# Altium schematic symbol library W25Q256JVEIQ.SchLib: 1 symbol
Pins are listed as number, name and electrical type; pins without a type are passive.

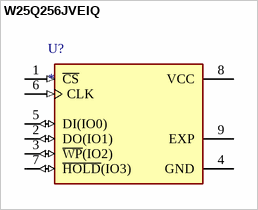
[diagram p0: symbol W25Q256JVEIQ]

## W25Q256JVEIQ
designator U?
Ic Flash 256mbit 104mhz 8wson; MF: {'manufacturer': u'Winbond'}; MP: W25Q256JVEIQ_TR; Package: None; Price: None; Availability: Unavailable; Value: *
footprint SON127P800X600X80-9N
pins: 1 ~{CS} (in), 2 DO(IO1) (io), 3 ~{WP}(IO2) (io), 4 GND (power), 5 DI(IO0) (io), 6 CLK (in), 7 ~{HOLD}(IO3) (io), 8 VCC (power), 9 EXP (power)